# Altium footprint library to-case.PcbLib: 113 footprints (part 5 of 8)
Each footprint in its own frame and in the unit in brackets; x right, y up, seen from the top. Pads: shape width x height; smd on the part's side, far side on the other; paste and mask are expansions set on the pad; w line width, h text height; cw(c..) or ccw(c..) is an arc to the next point about the centre after c.
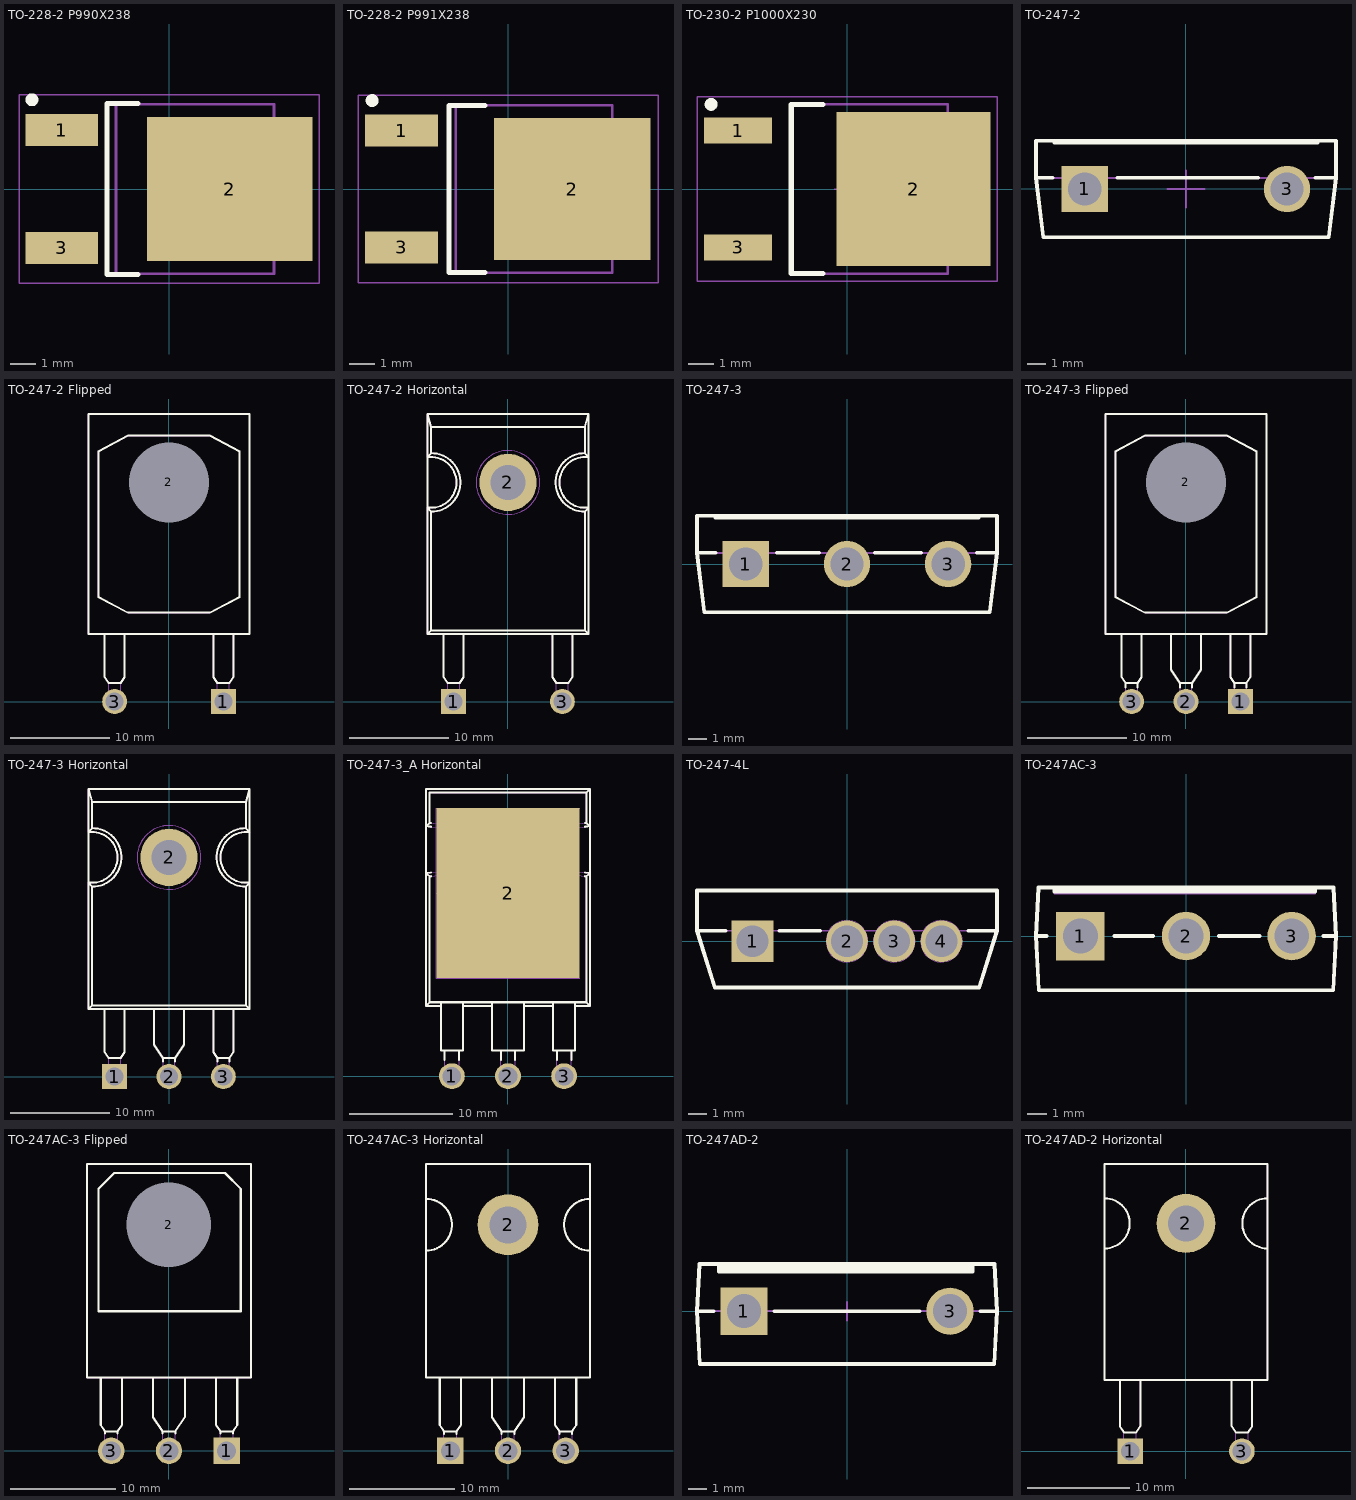
[diagram p4: the footprints below, top view; thin cyan lines are the x and y axes]

## TO-228-2 P990X238 [mm] "DPAK TO-252AA, TO, 2.28mm Pitch; 2 Pin, 9.90mm L X 6.56mm W X 2.38mm H body, IPC Medium Density"
height 2.38
pads (3):
  rect 2.8x1.25 smd: 1(-4.15,2.28) 3(-4.15,-2.28)
  rect 6.4x5.55 smd: 2(2.35,0)
Top Overlay:
  circle w0.25: c-5.3,3.45 r0.125
  lines w0.2: -1.2,-3.3 -2.4,-3.3 -2.4,3.3 -1.2,3.3
Top Paste:
  region: 2.71,0.36 4.81,0.36 4.81,2.04 2.71,2.04
  region: -0.11,0.36 1.99,0.36 1.99,2.04 -0.11,2.04
  region: 2.71,-2.04 4.81,-2.04 4.81,-0.36 2.71,-0.36
  region: -0.11,-2.04 1.99,-2.04 1.99,-0.36 -0.11,-0.36
Mechanical 1:
  lines w0.1: 4.06,-2.668 4.354,-2.668 4.95,-2.006 4.95,2.006 4.354,2.668 4.06,2.668 ; -2.05,-3.282 -2.05,3.282 4.06,3.282 4.06,-3.282 -2.05,-3.282
Mechanical 15:
  circle w0.05: c0,0 r0.35
  lines w0.05: -0.5,0 0.5,0 ; 0,-0.5 0,0.5 ; -5.8,-3.65 -5.8,3.65 5.8,3.65 5.8,-3.65 -5.8,-3.65
3D body "TO228P990X238-3N-R640X555.stp": height 2.28, standoff 0, extent -4.992,-3.27 4.946,3.27

## TO-228-2 P991X238 [mm] "TO-252AA DPAK TO, 2.28mm pitch; 2 pin,9.905mm L X 6.095mm W X 2.38mm H body, IPC Medium Density"
height 2.39
pads (3):
  rect 2.85x1.25 smd: 1(-4.15,2.28) 3(-4.15,-2.28)
  rect 6.1x5.55 smd: 2(2.5,0)
Top Overlay:
  circle w0.25: c-5.3,3.45 r0.125
  lines w0.2: -0.9,-3.25 -2.3,-3.25 -2.3,3.25 -0.9,3.25
Top Paste:
  region: 0.16,-2.06 2.14,-2.06 2.14,-0.36 0.16,-0.36
  region: 2.86,-2.06 4.84,-2.06 4.84,-0.36 2.86,-0.36
  region: 0.16,0.36 2.14,0.36 2.14,2.06 0.16,2.06
  region: 2.86,0.36 4.84,0.36 4.84,2.06 2.86,2.06
Mechanical 1:
  lines w0.1: 4.062,-2.602 4.356,-2.602 4.952,-1.942 4.952,1.942 4.356,2.602 4.062,2.602 ; -2.032,-3.27 -2.032,3.27 4.062,3.27 4.062,-3.27 -2.032,-3.27
Mechanical 15:
  lines w0.05: -0.5,0 0.5,0 ; 0,-0.5 0,0.5 ; -5.85,-3.65 -5.85,3.65 5.85,3.65 5.85,-3.65 -5.85,-3.65
3D body "TO228P991X239-3N-R552X520.stp": height 2.45, standoff -0.06, extent -5.222,-3.365 5.198,3.365

## TO-230-2 P1000X230 [mm] "DPAK TO-252, 2.30mm Pitch; 2 Pin, 10.00mm L X 6.60mm W X 2.30mm H body, IPC Medium Density"
height 2.3
pads (3):
  rect 2.65x1 smd: 1(-4.25,2.28) 3(-4.25,-2.28)
  rect 6x6 smd: 2(2.6,0)
Top Overlay:
  circle w0.25: c-5.3,3.3 r0.125
  lines w0.2: -0.94,-3.3 -2.172,-3.3 -2.172,3.3 -0.94,3.3
Mechanical 1:
  lines w0.1: 3.922,-2.668 4.216,-2.668 4.812,-2.006 4.812,2.006 4.216,2.668 3.922,2.668 ; -2.172,-3.3 -2.172,3.3 3.922,3.3 3.922,-3.3 -2.172,-3.3
Mechanical 15:
  lines w0.05: -0.5,0 0.5,0 ; 0,-0.5 0,0.5 ; -5.85,-3.6 -5.85,3.6 5.85,3.6 5.85,-3.6 -5.85,-3.6
3D body "TO230P1000X230-3N-R530X540.stp": height 2.29, standoff 0, extent -5.072,-3.3 4.926,3.3

## TO-247-2 [mm] "TO-247 2-Terminal - Vertical Mount"
height 25
pads (2):
  rect 2.5x2.5 hole 1.8: 1(-5.46,0)
  round 2.5 hole 1.8: 3(5.46,0)
Top Overlay:
  lines w0.2: -7.2,0.6 -8.1,0.6 ; -7.1,2.6 -7.1,2.5 7.1,2.5 7.1,2.6 ; -3.7,0.6 3.9,0.6 ; 7,0.6 8.1,0.6 ; -8.1,0.6 -7.71,-2.6 7.71,-2.6 8.1,0.6 ; -8.1,0.6 -8.1,2.6 8.1,2.6 8.1,0.6
Mechanical 1:
  lines w0.1: -7.1,2.6 -7.1,2.5 7.1,2.5 7.1,2.6 ; -8.1,0.6 8.1,0.6 ; -8.1,0.6 -7.71,-2.6 7.71,-2.6 8.1,0.6 ; -8.1,0.6 -8.1,2.6 8.1,2.6 8.1,0.6
Mechanical 8:
  lines w0.1: -6.46,0 -5.46,0 ; -5.46,-1 -5.46,0 ; -5.46,1 -5.46,0 ; -4.46,0 -5.46,0 ; 4.46,0 5.46,0 ; 5.46,-1 5.46,0 ; 5.46,1 5.46,0 ; 6.46,0 5.46,0
Mechanical 15:
  lines w0.1: -1,0 0,0 ; 0,-1 0,0 ; 0,1 0,0 ; 1,0 0,0 ; -8.098,0.598 -8.098,2.598 8.102,2.598 8.102,0.598 7.712,-2.602 -7.708,-2.602 -8.098,0.598
3D body "TO-247-2-V.stp": height 27.02, standoff -3.6, extent -8.1,-2.6 8.1,2.6

## TO-247-2 Flipped [mm] "TO-247 2-Terminal + Tab, Flipped Horizontal Mount"
height 5.26
pads (3):
  rect 2.5x2.5 hole 1.8: 1(5.46,0)
  round 1.5 hole 8 unplated mask+3.25: 2(0,22)
  round 2.5 hole 1.8: 3(-5.46,0)
Top Overlay:
  lines w0.2: -6.46,6.76 -6.46,2.44 -6.06,1.84 -4.86,1.84 -4.46,2.44 -4.46,6.76 ; 4.46,6.76 4.46,2.44 4.86,1.84 6.06,1.84 6.46,2.44 6.46,6.76 ; -8.1,6.76 -8.1,28.86 8.103,28.869 8.1,6.76 -8.1,6.76 ; -7.1,10.51 -4.1,8.92 4.1,8.92 7.1,10.51 7.1,25.11 4.1,26.7 -4.1,26.7 -7.1,25.11 -7.1,10.51
Mechanical 1:
  circle w0.1: c0,22 r3.202
  lines w0.1: -6.46,6.76 -6.46,2.44 -6.06,1.84 ; -4.46,6.76 -4.46,2.44 -4.86,1.84 ; 4.46,6.76 4.46,2.44 4.86,1.84 ; 6.46,6.76 6.46,2.44 6.06,1.84 ; -6.06,1.84 -4.86,1.84 ; -6.06,1.84 -6.06,-0.5 -4.86,-0.5 -4.86,1.84 ; 4.86,1.84 6.06,1.84 ; 4.86,1.84 4.86,-0.5 6.06,-0.5 6.06,1.84 ; -8.1,6.76 -8.1,28.86 8.1,28.86 8.1,6.76 -8.1,6.76 ; -7.1,10.51 -7.1,25.11 -4.1,26.7 4.1,26.7 7.1,25.11 7.1,10.51 4.1,8.92 -4.1,8.92 -7.1,10.51
Mechanical 8:
  lines w0.1: -6.46,0 -5.46,0 ; -5.46,-1 -5.46,0 ; -5.46,1 -5.46,0 ; -4.46,0 -5.46,0 ; 4.46,0 5.46,0 ; 5.46,-1 5.46,0 ; 5.46,1 5.46,0 ; 6.46,0 5.46,0
Mechanical 15:
  circle w0.1: c0.003,22.004 r3.202
  lines w0.1: -6.457,6.764 -6.457,2.444 -6.057,1.844 ; -4.457,6.764 -4.457,2.444 -4.857,1.844 ; -1,22 0,22 ; 0,21 0,22 ; 0,23 0,22 ; 1,22 0,22 ; 4.463,6.764 4.463,2.444 4.863,1.844 ; 6.463,6.764 6.463,2.444 6.063,1.844 ; -6.057,1.844 -6.057,-0.496 -4.857,-0.496 -4.857,1.844 ; -6.057,1.844 -4.857,1.844 ; 4.863,1.844 6.063,1.844 ; 4.863,1.844 4.863,-0.496 6.063,-0.496 6.063,1.844 ; -8.097,6.764 8.103,6.764 8.103,28.864 -8.097,28.864 -8.097,6.764 ; -7.097,10.514 -4.097,8.924 4.103,8.924 7.103,10.514 7.103,25.114 4.103,26.704 -4.097,26.704 -7.097,25.114 -7.097,10.514
3D body "TO-247-2-HFLIP.stp": height 5.2, standoff -3.8, extent -8.1,-0.5 8.1,28.86

## TO-247-2 Horizontal [mm] "TO-247 2-Terminal - Horizontal Mount"
height 5.26
pads (3):
  rect 2.5x2.5 hole 1.8: 1(-5.46,0)
  round 5.75 hole 3.5: 2(0,22)
  round 2.5 hole 1.8: 3(5.46,0)
Top Overlay:
  lines w0.2: -6.46,6.76 -6.46,2.44 -6.06,1.84 -4.86,1.84 -4.46,2.44 -4.46,6.76 ; 4.46,6.76 4.46,2.44 4.86,1.84 6.06,1.84 6.46,2.44 6.46,6.76 ; 8.1,19.45 7.71,19.06 ; 8.1,19.49 cw(c7.71,22) 8.1,24.51 7.71,24.94 ; 8.1,28.86 7.71,27.567 ; -8.1,6.76 8.1,6.76 ; -8.1,6.76 -7.71,7.153 ; -8.1,6.76 -8.1,28.86 ; -8.1,28.86 8.103,28.869 8.1,6.76 ; -8.1,28.86 -7.71,27.567 ; -7.71,7.153 7.71,7.153 ; -7.71,7.153 -7.71,19.06 ; -7.71,19.06 ccw(c-7.71,22) -7.71,24.94 ; -7.71,19.06 -8.1,19.49 ccw(c-7.71,22) -8.1,24.51 -7.71,24.94 ; -7.71,24.94 -7.71,27.567 ; -7.71,27.567 7.71,27.567 ; 7.71,7.153 7.71,19.06 ; 7.71,7.153 8.1,6.76 ; 7.71,19.06 cw(c7.71,22) 7.71,24.94 ; 7.71,24.94 7.71,27.567
Mechanical 1:
  circle w0.1: c0,22 r3.202
  lines w0.1: -6.46,6.76 -6.46,2.44 -6.06,1.84 ; -4.46,6.76 -4.46,2.44 -4.86,1.84 ; 4.46,6.76 4.46,2.44 4.86,1.84 ; 6.46,6.76 6.46,2.44 6.06,1.84 ; 8.103,28.869 -8.1,28.86 ; -8.1,6.76 8.1,6.76 ; -8.1,6.76 -7.71,7.153 ; -8.1,6.76 -8.1,19.49 ; -8.1,19.49 ccw(c-7.71,22) -8.1,24.51 ; -8.1,19.49 -7.71,19.06 ; -8.1,24.51 -7.71,24.94 ; -8.1,24.51 -8.1,28.86 ; -8.1,28.86 -7.71,27.567 ; -7.71,7.153 7.71,7.153 ; -7.71,7.153 -7.71,19.06 ; -7.71,19.06 ccw(c-7.71,22) -7.71,24.94 ; -7.71,24.94 -7.71,27.567 ; -7.71,27.567 7.71,27.567 ; -6.06,1.84 -6.06,-0.5 -4.86,-0.5 -4.86,1.84 ; -6.06,1.84 -4.86,1.84 ; 4.86,1.84 6.06,1.84 ; 4.86,1.84 4.86,-0.5 6.06,-0.5 6.06,1.84 ; 7.71,7.153 8.1,6.76 ; 7.71,7.153 7.71,19.06 ; 7.71,19.06 cw(c7.71,22) 7.71,24.94 ; 7.71,19.06 8.1,19.49 ; 7.71,24.94 8.1,24.51 ; 7.71,24.94 7.71,27.567 ; 7.71,27.567 8.1,28.86 8.1,24.51 ; 8.1,6.76 8.1,19.49 ; 8.1,19.49 cw(c7.71,22) 8.1,24.51
Mechanical 8:
  lines w0.1: -6.46,0 -5.46,0 ; -5.46,-1 -5.46,0 ; -5.46,1 -5.46,0 ; -4.46,0 -5.46,0 ; 4.46,0 5.46,0 ; 5.46,-1 5.46,0 ; 5.46,1 5.46,0 ; 6.46,0 5.46,0
Mechanical 15:
  circle w0.1: c0.004,21.999 r3.202
  lines w0.1: -6.456,6.759 -6.456,2.439 -6.056,1.839 ; -4.456,6.759 -4.456,2.439 -4.856,1.839 ; -1,22 0,22 ; 0,21 0,22 ; 0,23 0,22 ; 1,22 0,22 ; 4.464,6.759 4.464,2.439 4.864,1.839 ; 6.464,6.759 6.464,2.439 6.064,1.839 ; 8.106,28.868 -8.096,28.859 ; -8.096,6.759 8.104,6.759 ; -8.096,6.759 -7.706,7.152 ; -8.096,6.759 -8.096,19.489 ; -8.096,19.489 ccw(c-7.706,21.999) -8.096,24.509 ; -8.096,19.489 -7.706,19.059 ; -8.096,24.509 -7.706,24.939 ; -8.096,24.509 -8.096,28.859 ; -8.096,28.859 -7.706,27.566 ; -7.706,7.152 7.714,7.152 ; -7.706,7.152 -7.706,19.059 ; -7.706,19.059 ccw(c-7.706,21.999) -7.706,24.939 ; -7.706,24.939 -7.706,27.566 ; -7.706,27.566 7.714,27.566 ; -6.056,1.839 -4.856,1.839 ; -6.056,1.839 -6.056,-0.501 -4.856,-0.501 -4.856,1.839 ; 4.864,1.839 6.064,1.839 ; 4.864,1.839 4.864,-0.501 6.064,-0.501 6.064,1.839 ; 7.714,7.152 8.104,6.759 ; 7.714,7.152 7.714,19.059 ; 7.714,19.059 cw(c7.714,21.999) 7.714,24.939 ; 7.714,19.059 8.104,19.489 ; 7.714,24.939 8.104,24.509 ; 7.714,24.939 7.714,27.566 ; 7.714,27.566 8.104,28.859 8.104,24.509 ; 8.104,6.759 8.104,19.489 ; 8.104,19.489 cw(c7.714,21.999) 8.104,24.509
3D body "TO-247-2-H.stp": height 5.2, standoff -3.8, extent -8.1,-0.5 8.1,28.86

## TO-247-3 [mm] "TO-247 3-Terminal - Vertical Mount"
height 25
pads (3):
  rect 2.5x2.5 hole 1.8: 1(-5.46,0)
  round 2.5 hole 1.8: 2(0,0) 3(5.46,0)
Top Overlay:
  lines w0.2: -7.1,0.6 -8.1,0.6 ; -7.1,2.6 -7.1,2.5 7.1,2.5 7.1,2.6 ; -3.8,0.6 -1.5,0.6 ; 1.5,0.6 4,0.6 ; 7,0.6 8.1,0.6 ; -8.1,0.6 -7.71,-2.6 7.71,-2.6 8.1,0.6 ; -8.1,0.6 -8.1,2.6 8.1,2.6 8.1,0.6
Mechanical 1:
  lines w0.1: -7.1,2.6 -7.1,2.5 7.1,2.5 7.1,2.6 ; -8.1,0.6 8.1,0.6 ; -8.1,0.6 -7.71,-2.6 7.71,-2.6 8.1,0.6 ; -8.1,0.6 -8.1,2.6 8.1,2.6 8.1,0.6
Mechanical 8:
  lines w0.1: -6.46,0 -5.46,0 ; -5.46,-1 -5.46,0 ; -5.46,1 -5.46,0 ; -4.46,0 -5.46,0 ; 4.46,0 5.46,0 ; 5.46,-1 5.46,0 ; 5.46,1 5.46,0 ; 6.46,0 5.46,0
Mechanical 15:
  lines w0.1: -1,0 0,0 ; 0,-1 0,0 ; 0,1 0,0 ; 1,0 0,0 ; -8.1,0.6 -7.71,-2.6 7.71,-2.6 8.1,0.6 8.1,2.6 -8.1,2.6 -8.1,0.6
3D body "TO-247-V.stp": height 27.02, standoff -3.6, extent -8.1,-2.6 8.1,2.6

## TO-247-3 Flipped [mm] "TO-247 3-Terminal - Flipped Horizontal Mount"
height 5.26
pads (4):
  rect 2.5x2.5 hole 1.8: 1(5.46,0)
  round 2.5 hole 1.8: 2(0,0) 3(-5.46,0)
  round 1.5 hole 8 unplated mask+3.25: 2(0,22)
Top Overlay:
  lines w0.2: -6.46,6.76 -6.46,2.44 -6.06,1.84 ; -6.06,1.429 -6.06,1.84 ; -4.86,1.429 -4.86,1.84 ; -4.46,6.76 -4.46,2.44 -4.86,1.84 ; -1.5,6.76 -1.5,3.19 -0.6,1.84 ; -0.6,1.429 -0.6,1.84 ; 0.6,1.429 0.6,1.84 ; 1.5,6.76 1.5,3.19 0.6,1.84 ; 4.46,6.76 4.46,2.44 4.86,1.84 ; 4.86,1.429 4.86,1.84 ; 6.06,1.429 6.06,1.84 ; 6.46,6.76 6.46,2.44 6.06,1.84 ; 8.1,28.869 8.1,6.76 -8.1,6.76 -8.1,28.86 8.103,28.869 ; -6.06,1.84 -4.86,1.84 ; -0.6,1.84 0.6,1.84 ; 4.86,1.84 6.06,1.84 ; -7.1,10.51 -4.1,8.92 4.1,8.92 7.1,10.51 7.1,25.11 4.1,26.7 -4.1,26.7 -7.1,25.11 -7.1,10.51
Mechanical 1:
  circle w0.1: c0,22 r3.202
  lines w0.1: -6.46,6.76 -6.46,2.44 -6.06,1.84 ; -4.46,6.76 -4.46,2.44 -4.86,1.84 ; -1.5,6.76 -1.5,3.19 -0.6,1.84 ; 1.5,6.76 1.5,3.19 0.6,1.84 ; 4.46,6.76 4.46,2.44 4.86,1.84 ; 6.46,6.76 6.46,2.44 6.06,1.84 ; 8.1,28.869 8.1,6.76 -8.1,6.76 -8.1,28.86 8.103,28.869 ; -6.06,1.84 -4.86,1.84 ; -6.06,1.84 -6.06,-0.5 -4.86,-0.5 -4.86,1.84 ; -0.6,1.84 0.6,1.84 ; -0.6,1.84 -0.6,-0.5 0.6,-0.5 0.6,1.84 ; 4.86,1.84 6.06,1.84 ; 4.86,1.84 4.86,-0.5 6.06,-0.5 6.06,1.84 ; -7.1,10.51 -4.1,8.92 4.1,8.92 7.1,10.51 7.1,25.11 4.1,26.7 -4.1,26.7 -7.1,25.11 -7.1,10.51
Mechanical 8:
  lines w0.1: -5.46,0 -6.46,0 -5.46,0 ; -5.46,0 -4.46,0 -5.46,0 ; -5.46,0 -5.46,-1 -5.46,0 ; -5.46,0 -5.46,1 -5.46,0 ; 0,0 -1,0 0,0 ; 0,0 1,0 0,0 ; 0,0 0,-1 0,0 ; 0,0 0,1 0,0 ; 5.46,0 4.46,0 5.46,0 ; 5.46,0 6.46,0 5.46,0 ; 5.46,0 5.46,-1 5.46,0 ; 5.46,0 5.46,1 5.46,0
Mechanical 15:
  circle w0.1: c0,22 r3.202
  lines w0.1: -6.46,6.76 -6.46,2.44 -6.06,1.84 ; -4.46,6.76 -4.46,2.44 -4.86,1.84 ; -1.5,6.76 -1.5,3.19 -0.6,1.84 ; 1.5,6.76 1.5,3.19 0.6,1.84 ; 4.46,6.76 4.46,2.44 4.86,1.84 ; 6.46,6.76 6.46,2.44 6.06,1.84 ; 8.1,28.869 8.1,6.76 -8.1,6.76 -8.1,28.86 8.103,28.869 ; -6.06,1.84 -4.86,1.84 ; -6.06,1.84 -6.06,-0.5 -4.86,-0.5 -4.86,1.84 ; -0.6,1.84 0.6,1.84 ; -0.6,1.84 -0.6,-0.5 0.6,-0.5 0.6,1.84 ; 0,22 0,23 0,22 ; 0,22 -1,22 0,22 ; 0,22 1,22 0,22 ; 0,22 0,21 0,22 ; 4.86,1.84 6.06,1.84 ; 4.86,1.84 4.86,-0.5 6.06,-0.5 6.06,1.84 ; -7.1,10.51 -4.1,8.92 4.1,8.92 7.1,10.51 7.1,25.11 4.1,26.7 -4.1,26.7 -7.1,25.11 -7.1,10.51
3D body "TO-247-HFLIP.stp": height 5.2, standoff -3.8, extent -8.1,-0.5 8.1,28.86

## TO-247-3 Horizontal [mm] "TO-247 3-Terminal - Horizontal Mount"
height 5.26
pads (4):
  rect 2.5x2.5 hole 1.8: 1(-5.46,0)
  round 2.5 hole 1.8: 2(0,0) 3(5.46,0)
  round 5.75 hole 3.5: 2(0,22)
Top Overlay:
  lines w0.2: -6.46,6.76 -6.46,2.44 -6.06,1.84 -4.86,1.84 -4.46,2.44 -4.46,6.76 ; -1.5,6.76 -1.5,3.19 -0.6,1.84 ; -0.6,1.5 -0.6,1.84 ; 0.6,1.5 0.6,1.84 ; 1.5,6.76 1.5,3.19 0.6,1.84 ; 4.46,6.76 4.46,2.44 4.86,1.84 ; 4.86,1.5 4.86,1.84 ; 6.06,1.5 6.06,1.84 ; 6.46,6.76 6.46,2.44 6.06,1.84 ; 8.1,19.45 7.71,19.06 ; 8.1,19.49 cw(c7.71,22) 8.1,24.51 7.71,24.94 ; 8.1,28.86 7.71,27.567 ; -8.1,6.76 -8.1,28.86 ; -8.1,6.76 -7.71,7.153 ; -8.1,6.76 8.1,6.76 ; -8.1,28.86 -7.71,27.567 ; -8.1,28.86 8.103,28.869 8.1,6.76 ; -7.71,7.153 -7.71,19.06 ; -7.71,7.153 7.71,7.153 ; -7.71,19.06 ccw(c-7.71,22) -7.71,24.94 ; -7.71,19.06 -8.1,19.49 ccw(c-7.71,22) -8.1,24.51 -7.71,24.94 ; -7.71,24.94 -7.71,27.567 ; -7.71,27.567 7.71,27.567 ; -0.6,1.84 0.6,1.84 ; 4.86,1.84 6.06,1.84 ; 7.71,7.153 8.1,6.76 ; 7.71,7.153 7.71,19.06 ; 7.71,19.06 cw(c7.71,22) 7.71,24.94 ; 7.71,24.94 7.71,27.567
Mechanical 1:
  circle w0.1: c0,22 r3.202
  lines w0.1: -6.46,6.76 -6.46,2.44 -6.06,1.84 ; -4.46,6.76 -4.46,2.44 -4.86,1.84 ; -1.5,6.76 -1.5,3.19 -0.6,1.84 ; 1.5,6.76 1.5,3.19 0.6,1.84 ; 4.46,6.76 4.46,2.44 4.86,1.84 ; 6.46,6.76 6.46,2.44 6.06,1.84 ; 8.103,28.869 -8.1,28.86 ; -8.1,6.76 8.1,6.76 ; -8.1,6.76 -7.71,7.153 ; -8.1,6.76 -8.1,19.49 ; -8.1,19.49 ccw(c-7.71,22) -8.1,24.51 ; -8.1,19.49 -7.71,19.06 ; -8.1,24.51 -7.71,24.94 ; -8.1,24.51 -8.1,28.86 ; -8.1,28.86 -7.71,27.567 ; -7.71,7.153 7.71,7.153 ; -7.71,7.153 -7.71,19.06 ; -7.71,19.06 ccw(c-7.71,22) -7.71,24.94 ; -7.71,24.94 -7.71,27.567 ; -7.71,27.567 7.71,27.567 ; -6.06,1.84 -4.86,1.84 ; -6.06,1.84 -6.06,-0.5 -4.86,-0.5 -4.86,1.84 ; -0.6,1.84 0.6,1.84 ; -0.6,1.84 -0.6,-0.5 0.6,-0.5 0.6,1.84 ; 4.86,1.84 6.06,1.84 ; 4.86,1.84 4.86,-0.5 6.06,-0.5 6.06,1.84 ; 7.71,7.153 8.1,6.76 ; 7.71,7.153 7.71,19.06 ; 7.71,19.06 cw(c7.71,22) 7.71,24.94 ; 7.71,19.06 8.1,19.49 ; 7.71,24.94 8.1,24.51 ; 7.71,24.94 7.71,27.567 ; 7.71,27.567 8.1,28.86 8.1,24.51 ; 8.1,6.76 8.1,19.49 ; 8.1,19.49 cw(c7.71,22) 8.1,24.51
Mechanical 8:
  lines w0.1: -6.46,0 -5.46,0 ; -5.46,-1 -5.46,0 ; -5.46,1 -5.46,0 ; -4.46,0 -5.46,0 ; -1,0 0,0 ; 0,-1 0,0 ; 0,1 0,0 ; 1,0 0,0 ; 4.46,0 5.46,0 ; 5.46,-1 5.46,0 ; 5.46,1 5.46,0 ; 6.46,0 5.46,0
Mechanical 15:
  circle w0.1: c-0.003,21.997 r3.202
  lines w0.1: -6.463,6.757 -6.463,2.437 -6.063,1.837 ; -4.463,6.757 -4.463,2.437 -4.863,1.837 ; -1.503,6.757 -1.503,3.187 -0.603,1.837 ; -1,22 0,22 ; 0,21 0,22 ; 0,23 0,22 ; 1,22 0,22 ; 1.497,6.757 1.497,3.187 0.597,1.837 ; 4.457,6.757 4.457,2.437 4.857,1.837 ; 6.457,6.757 6.457,2.437 6.057,1.837 ; 8.099,28.866 -8.103,28.857 ; -8.103,6.757 8.097,6.757 ; -8.103,6.757 -7.713,7.15 ; -8.103,6.757 -8.103,19.487 ; -8.103,19.487 ccw(c-7.713,21.997) -8.103,24.507 ; -8.103,19.487 -7.713,19.057 ; -8.103,24.507 -7.713,24.937 ; -8.103,24.507 -8.103,28.857 ; -8.103,28.857 -7.713,27.564 ; -7.713,7.15 7.707,7.15 ; -7.713,7.15 -7.713,19.057 ; -7.713,19.057 ccw(c-7.713,21.997) -7.713,24.937 ; -7.713,24.937 -7.713,27.564 ; -7.713,27.564 7.707,27.564 ; -6.063,1.837 -4.863,1.837 ; -6.063,1.837 -6.063,-0.503 -4.863,-0.503 -4.863,1.837 ; -0.603,1.837 0.597,1.837 ; -0.603,1.837 -0.603,-0.503 0.597,-0.503 0.597,1.837 ; 4.857,1.837 6.057,1.837 ; 4.857,1.837 4.857,-0.503 6.057,-0.503 6.057,1.837 ; 7.707,7.15 8.097,6.757 ; 7.707,7.15 7.707,19.057 ; 7.707,19.057 cw(c7.707,21.997) 7.707,24.937 ; 7.707,19.057 8.097,19.487 ; 7.707,24.937 8.097,24.507 ; 7.707,24.937 7.707,27.564 ; 7.707,27.564 8.097,28.857 8.097,24.507 ; 8.097,6.757 8.097,19.487 ; 8.097,19.487 cw(c7.707,21.997) 8.097,24.507
3D body "TO-247-H.stp": height 5.2, standoff -3.8, extent -8.1,-0.5 8.1,28.86

## TO-247-3_A Horizontal [mm] "IXYS ISOPLUS247 Case, Lead spacing 5.45mm Body 21.07mm X 15.94mm - Horizontal Mount"
height 5.21
pads (4):
  round 2.5 hole 1.8: 1(-5.45,0) 2(0,0) 3(5.45,0)
  rect 13.9x16.5 smd paste-9.25: 2(0,17.775)
Top Overlay:
  lines w0.2: -7.5,19.418 -7.62,19.403 ; -7.5,19.77 -7.97,19.713 -7.62,19.403 ; -7.5,24.23 -7.97,24.288 -7.62,24.597 ; -7.5,24.582 -7.62,24.597 ; -6.515,6.825 -7.97,6.825 ; -6.515,7.175 -6.515,2.505 -4.385,2.505 -4.385,7.175 ; -6.15,1.549 -6.15,2.505 ; -4.75,1.549 -4.75,2.505 ; -4.385,6.825 -1.56,6.825 ; -1.56,7.175 -1.56,2.505 1.56,2.505 1.56,7.175 ; -0.7,1.549 -0.7,2.505 ; 0.7,1.549 0.7,2.505 ; 1.56,6.825 4.385,6.825 ; 4.385,7.175 4.385,2.505 6.515,2.505 6.515,7.175 ; 4.75,1.549 4.75,2.505 ; 6.15,1.549 6.15,2.505 ; 6.515,6.825 7.97,6.825 ; 7.5,19.418 7.62,19.403 ; 7.5,19.77 7.97,19.713 7.62,19.403 ; 7.5,24.23 7.97,24.288 7.62,24.597 ; 7.5,24.582 7.62,24.597 ; -7.97,6.825 -7.97,27.895 7.97,27.895 ; -7.97,6.825 -7.62,7.175 ; -7.62,7.175 7.62,7.175 ; -7.62,7.175 -7.62,19.403 ; -7.62,24.597 -7.62,27.545 7.62,27.545 ; 7.62,7.175 7.97,6.825 ; 7.62,7.175 7.62,19.403 ; 7.62,24.597 7.62,27.545 ; 7.62,27.545 7.97,27.895 ; 7.97,6.825 7.97,27.895
Mechanical 1:
  lines w0.1: -6.515,6.825 -7.97,6.825 ; -6.515,7.175 -6.515,2.505 -4.385,2.505 -4.385,7.175 ; -6.15,2.505 -6.15,-0.4 -4.75,-0.4 -4.75,2.505 ; -4.385,6.825 -1.56,6.825 ; -1.56,7.175 -1.56,2.505 1.56,2.505 1.56,7.175 ; -0.7,2.505 -0.7,-0.4 0.7,-0.4 0.7,2.505 ; 1.56,6.825 4.385,6.825 ; 4.385,7.175 4.385,2.505 6.515,2.505 6.515,7.175 ; 4.75,2.505 4.75,-0.4 6.15,-0.4 6.15,2.505 ; 6.515,6.825 7.97,6.825 ; -7.97,6.825 -7.97,27.895 7.97,27.895 ; -7.97,6.825 -7.62,7.175 ; -7.62,7.175 -7.62,19.403 ; -7.62,7.175 7.62,7.175 ; -7.62,19.403 -6.12,19.587 ; -7.62,19.403 -7.97,19.713 -6.47,19.897 ; -7.62,24.597 -7.97,24.288 -6.47,24.103 ; -7.62,24.597 -7.62,27.545 7.62,27.545 ; -7.62,24.597 -6.12,24.413 ; -6.47,19.897 -6.47,24.103 ; -6.47,19.897 -6.12,19.587 ; -6.47,24.103 -6.12,24.413 ; -6.12,19.587 -6.12,24.413 ; 6.12,19.587 7.62,19.403 ; 6.12,19.587 6.12,24.413 ; 6.12,19.587 6.47,19.897 ; 6.12,24.413 6.47,24.103 ; 6.12,24.413 7.62,24.597 ; 6.47,19.897 6.47,24.103 ; 6.47,19.897 7.97,19.713 7.62,19.403 ; 6.47,24.103 7.97,24.288 7.62,24.597 ; 7.62,7.175 7.62,19.403 ; 7.62,7.175 7.97,6.825 ; 7.62,24.597 7.62,27.545 ; 7.62,27.545 7.97,27.895 ; 7.97,6.825 7.97,27.895
Mechanical 8:
  lines w0.1: -6.95,17.775 0,17.775 0,9.525 ; -5.95,0 -5.45,0 ; -5.45,-0.5 -5.45,0 ; -5.45,0.5 -5.45,0 ; -4.95,0 -5.45,0 ; -0.5,0 0,0 ; 0,-0.5 0,0 ; 0,0.5 0,0 ; 0.5,0 0,0 ; 4.95,0 5.45,0 ; 5.45,-0.5 5.45,0 ; 5.45,0.5 5.45,0 ; 5.95,0 5.45,0 ; 6.95,9.525 -6.95,9.525 -6.95,26.025 6.95,26.025
Mechanical 15:
  lines w0.1: -6.52,6.825 -7.975,6.825 ; -6.52,7.175 -6.52,2.505 -4.39,2.505 -4.39,7.175 ; -6.155,2.505 -6.155,-0.4 -4.755,-0.4 -4.755,2.505 ; -4.39,6.825 -1.565,6.825 ; -1.565,7.175 -1.565,2.505 1.555,2.505 1.555,7.175 ; -0.705,2.505 -0.705,-0.4 0.695,-0.4 0.695,2.505 ; -0.5,22 0,22 ; 0,21.5 0,22 ; 0,22.5 0,22 ; 0.5,22 0,22 ; 1.555,6.825 4.38,6.825 ; 4.38,7.175 4.38,2.505 6.51,2.505 6.51,7.175 ; 4.745,2.505 4.745,-0.4 6.145,-0.4 6.145,2.505 ; 6.51,6.825 7.965,6.825 ; -7.975,6.825 -7.625,7.175 ; -7.975,6.825 -7.975,27.895 7.965,27.895 ; -7.625,7.175 7.615,7.175 ; -7.625,7.175 -7.625,19.403 ; -7.625,19.403 -6.125,19.587 ; -7.625,19.403 -7.975,19.713 -6.475,19.897 ; -7.625,24.597 -6.125,24.413 ; -7.625,24.597 -7.625,27.545 7.615,27.545 ; -7.625,24.597 -7.975,24.288 -6.475,24.103 ; -6.475,19.897 -6.125,19.587 ; -6.475,19.897 -6.475,24.103 ; -6.475,24.103 -6.125,24.413 ; -6.125,19.587 -6.125,24.413 ; 6.115,19.587 6.465,19.897 ; 6.115,19.587 6.115,24.413 ; 6.115,19.587 7.615,19.403 ; 6.115,24.413 7.615,24.597 ; 6.115,24.413 6.465,24.103 ; 6.465,19.897 7.965,19.713 7.615,19.403 ; 6.465,19.897 6.465,24.103 ; 6.465,24.103 7.965,24.288 7.615,24.597 ; 7.615,7.175 7.965,6.825 ; 7.615,7.175 7.615,19.403 ; 7.615,24.597 7.615,27.545 ; 7.615,27.545 7.965,27.895 ; 7.965,6.825 7.965,27.895
3D body "IXYS_PLUS247_H.stp": height 5.02, standoff -3.6, extent -7.97,-0.4 7.97,27.895

## TO-247-4L [mm] "TO-247-4L Plus-Terminal - Vertical Mount"
height 27.97
pads (4):
  rect 2.24x2.24 hole 1.7: 1(-5.08,0)
  round 2.24 hole 1.7: 2(0,0) 3(2.54,0) 4(5.08,0)
Top Overlay:
  lines w0.2: -6.523,0.565 -8.065,0.565 ; -3.637,0.565 -1.443,0.565 ; 6.523,0.565 8.065,0.565 ; -8.065,0.565 -7.103,-2.485 7.103,-2.485 8.065,0.565 ; -8.065,0.565 -8.065,2.725 8.065,2.725 8.065,0.565
Mechanical 1:
  lines w0.1: -8.065,0.565 8.065,0.565 ; -8.065,0.565 -7.103,-2.485 7.103,-2.485 8.065,0.565 ; -8.065,0.565 -8.065,2.725 8.065,2.725 8.065,0.565
Mechanical 8:
  circle w0.05: c5.08,0 r1.12
  circle w0.05: c5.08,0 r0.85
  circle w0.05: c2.54,0 r1.12
  circle w0.05: c2.54,0 r0.85
  circle w0.05: c-5.08,0 r0.85
  lines w0.05: -6.08,0 -5.08,0 ; -5.08,-1 -5.08,0 ; -5.08,1 -5.08,0 ; -4.08,0 -5.08,0 ; 1.54,0 2.54,0 ; 2.54,-1 2.54,0 ; 2.54,1 2.54,0 ; 3.54,0 2.54,0 ; 4.08,0 5.08,0 ; 5.08,-1 5.08,0 ; 5.08,1 5.08,0 ; 6.08,0 5.08,0
Mechanical 15:
  circle w0.05: c0,0 r1.12
  circle w0.05: c0,0 r0.85
  lines w0.05: -1,0 0,0 ; 0,-1 0,0 ; 0,1 0,0 ; 1,0 0,0
  lines w0.1: -8.065,0.565 8.065,0.565 ; -8.065,0.565 -7.103,-2.485 7.103,-2.485 8.065,0.565 ; -8.065,0.565 -8.065,2.725 8.065,2.725 8.065,0.565
3D body "TO-247-4L-V.stp": height 27.97, standoff -10, extent -8.065,-2.485 8.065,2.725

## TO-247AC-3 [mm] "TO-247AC 3-Terminal - Vertical Mount"
height 25
pads (3):
  rect 2.5x2.5 hole 1.8: 1(-5.46,0)
  round 2.5 hole 1.8: 2(0,0) 3(5.46,0)
Top Overlay:
  lines w0.2: -7.728,0 -7.2,0 ; -6.795,2.5 -6.795,2.3 6.665,2.3 6.665,2.5 ; -3.7,0 -1.7,0 ; 1.7,0 3.8,0 ; 7.1,0 7.75,0 ; 7.75,0 7.61,-2.8 -7.61,-2.8 -7.75,0 -7.62,2.5 7.62,2.5 7.75,0
Mechanical 1:
  lines w0.1: -6.795,2.3 6.665,2.3 ; -6.795,2.4 6.665,2.4 ; -6.795,2.5 -6.795,2.2 6.665,2.2 6.665,2.5 ; -7.75,0 -7.61,-2.8 7.61,-2.8 7.75,0 7.62,2.5 -7.62,2.5 -7.75,0
Mechanical 8:
  lines w0.1: -5.96,0 -5.46,0 ; -5.46,-0.5 -5.46,0 ; -5.46,0.5 -5.46,0 ; -4.96,0 -5.46,0 ; 4.96,0 5.46,0 ; 5.46,-0.5 5.46,0 ; 5.46,0.5 5.46,0 ; 5.96,0 5.46,0
Mechanical 15:
  lines w0.1: -0.5,0 0,0 ; 0,-0.5 0,0 ; 0,0.5 0,0 ; 0.5,0 0,0 ; -7.752,-0.004 -7.622,2.496 7.618,2.496 7.748,-0.004 7.608,-2.804 -7.612,-2.804 -7.752,-0.004
3D body "TO-247AC-V.stp": height 26.75, standoff -3.6, extent -7.75,-2.8 7.75,2.5

## TO-247AC-3 Flipped [mm] "TO-247AC 3-Terminal - Flipped Horizontal Mount"
height 5.3
pads (4):
  rect 2.5x2.5 hole 1.8: 1(5.46,0)
  round 2.5 hole 1.8: 2(0,0) 3(-5.46,0)
  round 1.5 hole 8 unplated mask+3.25: 2(0,21.39)
Top Overlay:
  lines w0.2: -6.46,6.94 -6.46,2.44 -6.06,1.84 ; -6.06,1.65 -6.06,1.84 ; -4.86,1.65 -4.86,1.84 ; -4.46,6.94 -4.46,2.44 -4.86,1.84 ; -1.5,6.94 -1.5,3.19 -0.6,1.84 ; -0.6,1.65 -0.6,1.84 ; 0.6,1.65 0.6,1.84 ; 1.5,6.94 1.5,3.19 0.6,1.84 ; 4.46,6.94 4.46,2.44 4.86,1.84 ; 4.86,1.65 4.86,1.84 ; 6.06,1.65 6.06,1.84 ; 6.46,6.94 6.46,2.44 6.06,1.84 ; -6.06,1.84 -4.86,1.84 ; -0.6,1.84 0.6,1.84 ; 4.86,1.84 6.06,1.84 ; -7.75,6.94 7.75,6.94 7.75,27.14 -7.75,27.14 -7.75,6.94 ; -6.665,13.21 6.795,13.21 6.795,24.79 5.295,26.29 -5.165,26.29 -6.665,24.79 -6.665,13.21
Mechanical 1:
  circle w0.1: c0,21.39 r1.75
  circle w0.1: c0,21.39 r3.7
  lines w0.1: -6.46,6.94 -6.46,2.44 -6.06,1.84 ; -4.46,6.94 -4.46,2.44 -4.86,1.84 ; -1.5,6.94 -1.5,3.19 -0.6,1.84 ; 1.5,6.94 1.5,3.19 0.6,1.84 ; 4.46,6.94 4.46,2.44 4.86,1.84 ; 6.46,6.94 6.46,2.44 6.06,1.84 ; -6.06,1.84 -6.06,-0.5 -4.86,-0.5 -4.86,1.84 ; -6.06,1.84 -4.86,1.84 ; -0.6,1.84 -0.6,-0.5 0.6,-0.5 0.6,1.84 ; -0.6,1.84 0.6,1.84 ; 4.86,1.84 4.86,-0.5 6.06,-0.5 6.06,1.84 ; 4.86,1.84 6.06,1.84 ; -7.75,6.94 -7.75,27.14 7.75,27.14 7.75,6.94 -7.75,6.94 ; -6.665,13.21 -6.665,24.79 -5.165,26.29 5.295,26.29 6.795,24.79 6.795,13.21 -6.665,13.21
Mechanical 8:
  lines w0.1: -5.96,0 -5.46,0 ; -5.46,-0.5 -5.46,0 ; -5.46,0.5 -5.46,0 ; -4.96,0 -5.46,0 ; -0.5,0 0,0 ; 0,-0.5 0,0 ; 0,0.5 0,0 ; 0.5,0 0,0 ; 4.96,0 5.46,0 ; 5.46,-0.5 5.46,0 ; 5.46,0.5 5.46,0 ; 5.96,0 5.46,0
Mechanical 15:
  circle w0.1: c0.004,21.384 r3.7
  circle w0.1: c0.004,21.384 r1.75
  lines w0.1: -6.456,6.934 -6.456,2.434 -6.056,1.834 ; -4.456,6.934 -4.456,2.434 -4.856,1.834 ; -1.496,6.934 -1.496,3.184 -0.596,1.834 ; -0.5,21.39 0,21.39 ; 0,20.89 0,21.39 ; 0,21.89 0,21.39 ; 0.5,21.39 0,21.39 ; 1.504,6.934 1.504,3.184 0.604,1.834 ; 4.464,6.934 4.464,2.434 4.864,1.834 ; 6.464,6.934 6.464,2.434 6.064,1.834 ; -6.056,1.834 -4.856,1.834 ; -6.056,1.834 -6.056,-0.506 -4.856,-0.506 -4.856,1.834 ; -0.596,1.834 0.604,1.834 ; -0.596,1.834 -0.596,-0.506 0.604,-0.506 0.604,1.834 ; 4.864,1.834 6.064,1.834 ; 4.864,1.834 4.864,-0.506 6.064,-0.506 6.064,1.834 ; -7.746,6.934 -7.746,27.134 7.754,27.134 7.754,6.934 -7.746,6.934 ; -6.661,13.204 6.799,13.204 6.799,24.784 5.299,26.284 -5.161,26.284 -6.661,24.784 -6.661,13.204
3D body "TO-247AC-HFLIP.stp": height 5.3, standoff -3.6, extent -7.75,-0.5 7.75,27.14

## TO-247AC-3 Horizontal [mm] "TO-247AC 3-Terminal - Horizontal Mount"
height 5.3
pads (4):
  rect 2.5x2.5 hole 1.8: 1(-5.46,0)
  round 2.5 hole 1.8: 2(0,0) 3(5.46,0)
  round 5.75 hole 3.5: 2(0,21.39)
Top Overlay:
  lines w0.2: -7.75,18.94 ccw(c-7.75,21.39) -7.75,23.84 ; -6.46,6.94 -6.46,2.44 -6.06,1.84 ; -6.06,1.6 -6.06,1.84 ; -4.86,1.6 -4.86,1.84 ; -4.46,6.94 -4.46,2.44 -4.86,1.84 ; -1.5,6.94 -1.5,3.19 -0.6,1.84 ; -0.6,1.6 -0.6,1.84 ; 0.6,1.6 0.6,1.84 ; 1.5,6.94 1.5,3.19 0.6,1.84 ; 4.46,6.94 4.46,2.44 4.86,1.84 ; 4.86,1.6 4.86,1.84 ; 6.06,1.6 6.06,1.84 ; 6.46,6.94 6.46,2.44 6.06,1.84 ; 7.75,18.94 cw(c7.75,21.39) 7.75,23.84 ; -6.06,1.84 -4.86,1.84 ; -0.6,1.84 0.6,1.84 ; 4.86,1.84 6.06,1.84 ; -7.75,6.94 -7.75,27.14 7.75,27.14 7.75,6.94 -7.75,6.94
Mechanical 1:
  circle w0.1: c0,21.39 r1.75
  lines w0.1: -7.75,18.94 ccw(c-7.75,21.39) -7.75,23.84 ; -6.46,6.94 -6.46,2.44 -6.06,1.84 ; -4.46,6.94 -4.46,2.44 -4.86,1.84 ; -1.5,6.94 -1.5,3.19 -0.6,1.84 ; 1.5,6.94 1.5,3.19 0.6,1.84 ; 4.46,6.94 4.46,2.44 4.86,1.84 ; 6.46,6.94 6.46,2.44 6.06,1.84 ; 7.75,18.94 cw(c7.75,21.39) 7.75,23.84 ; -6.06,1.84 -4.86,1.84 ; -6.06,1.84 -6.06,-0.5 -4.86,-0.5 -4.86,1.84 ; -0.6,1.84 0.6,1.84 ; -0.6,1.84 -0.6,-0.5 0.6,-0.5 0.6,1.84 ; 4.86,1.84 6.06,1.84 ; 4.86,1.84 4.86,-0.5 6.06,-0.5 6.06,1.84 ; -7.75,6.94 -7.75,27.14 7.75,27.14 7.75,6.94 -7.75,6.94
Mechanical 8:
  lines w0.1: -5.96,0 -5.46,0 ; -5.46,-0.5 -5.46,0 ; -5.46,0.5 -5.46,0 ; -4.96,0 -5.46,0 ; -0.5,0 0,0 ; 0,-0.5 0,0 ; 0,0.5 0,0 ; 0.5,0 0,0 ; 4.96,0 5.46,0 ; 5.46,-0.5 5.46,0 ; 5.46,0.5 5.46,0 ; 5.96,0 5.46,0
Mechanical 15:
  circle w0.1: c0,21.39 r1.75
  lines w0.1: -7.75,18.94 ccw(c-7.75,21.39) -7.75,23.84 ; -6.46,6.94 -6.46,2.44 -6.06,1.84 ; -4.46,6.94 -4.46,2.44 -4.86,1.84 ; -1.5,6.94 -1.5,3.19 -0.6,1.84 ; -0.5,21.39 0,21.39 ; 0,20.89 0,21.39 ; 0,21.89 0,21.39 ; 0.5,21.39 0,21.39 ; 1.5,6.94 1.5,3.19 0.6,1.84 ; 4.46,6.94 4.46,2.44 4.86,1.84 ; 6.46,6.94 6.46,2.44 6.06,1.84 ; 7.75,18.94 cw(c7.75,21.39) 7.75,23.84 ; -6.06,1.84 -4.86,1.84 ; -6.06,1.84 -6.06,-0.5 -4.86,-0.5 -4.86,1.84 ; -0.6,1.84 0.6,1.84 ; -0.6,1.84 -0.6,-0.5 0.6,-0.5 0.6,1.84 ; 4.86,1.84 6.06,1.84 ; 4.86,1.84 4.86,-0.5 6.06,-0.5 6.06,1.84 ; -7.75,6.94 7.75,6.94 7.75,27.14 -7.75,27.14 -7.75,6.94
3D body "TO-247AC-H.stp": height 5.3, standoff -3.9, extent -7.75,-0.5 7.75,27.14

## TO-247AD-2 [mm] "TO-247AD 2-Terminal - Vertical Mount"
height 25
pads (2):
  rect 2.5x2.5 hole 1.8: 1(-5.46,0)
  round 2.5 hole 1.8: 3(5.46,0)
Top Overlay:
  lines w0.2: -7.06,0 -7.95,0 ; -6.795,2.3 6.665,2.3 ; -6.795,2.5 -6.795,2.1 6.665,2.1 6.665,2.5 ; -3.86,0 3.86,0 ; 7.06,0 7.95,0 ; -7.95,0 -7.81,-2.8 7.81,-2.8 7.95,0 ; -7.95,0 -7.82,2.5 7.82,2.5 7.95,0
Mechanical 1:
  lines w0.1: -6.795,2.2 6.665,2.2 ; -6.795,2.3 6.665,2.3 ; -6.795,2.4 6.665,2.4 ; -6.795,2.5 -6.795,2.1 6.665,2.1 6.665,2.5 ; -7.95,0 7.95,0 ; -7.95,0 -7.81,-2.8 7.81,-2.8 7.95,0 ; -7.95,0 -7.82,2.5 7.82,2.5 7.95,0
Mechanical 8:
  lines w0.1: -5.96,0 -5.46,0 ; -5.46,-0.5 -5.46,0 ; -5.46,0.5 -5.46,0 ; -4.96,0 -5.46,0 ; 4.96,0 5.46,0 ; 5.46,-0.5 5.46,0 ; 5.46,0.5 5.46,0 ; 5.96,0 5.46,0
Mechanical 15:
  lines w0.1: -0.5,0 0,0 ; 0,-0.5 0,0 ; 0,0.5 0,0 ; 0.5,0 0,0 ; -7.95,0 -7.81,-2.8 7.81,-2.8 7.95,0 7.82,2.5 -7.82,2.5 -7.95,0
3D body "TO-247AD-2-V.stp": height 26.2, standoff -5.05, extent -7.95,-2.8 7.95,2.5

## TO-247AD-2 Horizontal [mm] "TO-247AD 2-Terminal - Horizontal Mount"
height 5.3
pads (3):
  rect 2.5x2.5 hole 1.8: 1(-5.46,0)
  round 5.75 hole 3.5: 2(0,22.24)
  round 2.5 hole 1.8: 3(5.46,0)
Top Overlay:
  lines w0.2: -7.95,19.79 ccw(c-7.95,22.24) -7.95,24.69 ; -6.46,6.94 -6.46,2.44 -6.06,1.84 -4.86,1.84 -4.46,2.44 -4.46,6.94 ; 4.46,6.94 4.46,2.44 4.86,1.84 6.06,1.84 6.46,2.44 6.46,6.94 ; 7.95,19.79 cw(c7.95,22.24) 7.95,24.69 ; -7.95,6.94 7.95,6.94 7.95,28.04 -7.95,28.04 -7.95,6.94
Mechanical 1:
  circle w0.1: c0,22.24 r1.75
  lines w0.1: -7.95,19.79 ccw(c-7.95,22.24) -7.95,24.69 ; -6.46,6.94 -6.46,2.44 -6.06,1.84 ; -4.46,6.94 -4.46,2.44 -4.86,1.84 ; 4.46,6.94 4.46,2.44 4.86,1.84 ; 6.46,6.94 6.46,2.44 6.06,1.84 ; 7.95,19.79 cw(c7.95,22.24) 7.95,24.69 ; -6.06,1.84 -4.86,1.84 ; -6.06,1.84 -6.06,-0.5 -4.86,-0.5 -4.86,1.84 ; 4.86,1.84 6.06,1.84 ; 4.86,1.84 4.86,-0.5 6.06,-0.5 6.06,1.84 ; -7.95,6.94 -7.95,28.04 7.95,28.04 7.95,6.94 -7.95,6.94
Mechanical 8:
  lines w0.1: -5.96,0 -5.46,0 ; -5.46,-0.5 -5.46,0 ; -5.46,0.5 -5.46,0 ; -4.96,0 -5.46,0 ; 4.96,0 5.46,0 ; 5.46,-0.5 5.46,0 ; 5.46,0.5 5.46,0 ; 5.96,0 5.46,0
Mechanical 15:
  circle w0.1: c0,22.24 r1.75
  lines w0.1: -7.95,19.79 ccw(c-7.95,22.24) -7.95,24.69 ; -6.46,6.94 -6.46,2.44 -6.06,1.84 ; -4.46,6.94 -4.46,2.44 -4.86,1.84 ; -0.5,22.24 0,22.24 ; 0,21.74 0,22.24 ; 0,22.74 0,22.24 ; 0.5,22.24 0,22.24 ; 4.46,6.94 4.46,2.44 4.86,1.84 ; 6.46,6.94 6.46,2.44 6.06,1.84 ; 7.95,19.79 cw(c7.95,22.24) 7.95,24.69 ; -6.06,1.84 -6.06,-0.5 -4.86,-0.5 -4.86,1.84 ; -6.06,1.84 -4.86,1.84 ; 4.86,1.84 4.86,-0.5 6.06,-0.5 6.06,1.84 ; 4.86,1.84 6.06,1.84 ; -7.95,6.94 -7.95,28.04 7.95,28.04 7.95,6.94 -7.95,6.94
3D body "TO-247AD-2-H.stp": height 5.3, standoff -3.9, extent -7.95,-0.5 7.95,28.04